# EAGLE library part MEMORY (library IDMLib)
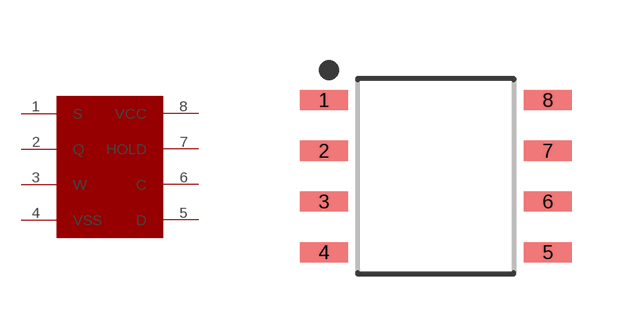
[diagram p1: symbol with the pads of SOIC127P600X175-8N; footprint SOIC127P600X175-8N]

Designator prefix -

## MEMORYMEMORY2  [SOIC127P600X175-8N]
1  S
2  Q
3  W
4  VSS
5  D
6  C
7  HOLD
8  VCC

## Footprint SOIC127P600X175-8N (pad centres in mm)
8-SOIC, 1.27 mm pitch, 6.00 mm span, 4.90 X 3.90 X 1.75 mm body 8-pin SOIC package with 1.27 mm pitch, 6.00 mm span with body size 4.90 X 3.90 X 1.75 mm
smd 1.212 x 0.502: 1 -2.8,1.905; 2 -2.8,0.635; 3 -2.8,-0.635; 4 -2.8,-1.905; 5 2.8,-1.905; 6 2.8,-0.635; 7 2.8,0.635; 8 2.8,1.905